# EAGLE library part ADC_CON_LED (library Arduino_Board)
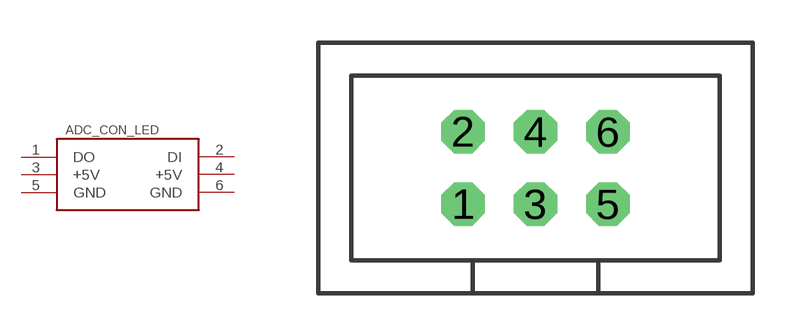
[diagram p1: symbol with the pads of T821_2X03; footprint T821_2X03]

Designator prefix -

## ADC_CON_LED  [T821_2X03]
1  DO
2  DI
3  +5V  pwr
4  +5V  pwr
5  GND  pwr
6  GND  pwr

## Footprint T821_2X03 (pad centres in mm)
drill 1.016 octagon: 1 -2.54,-1.27; 2 -2.54,1.27; 3 0,-1.27; 4 0,1.27; 5 2.54,-1.27; 6 2.54,1.27